# Altium footprint library FootprintsLib.PcbLib: 22 footprints (part 1 of 2)
Each footprint in its own frame and in the unit in brackets; x right, y up, seen from the top. Pads: shape width x height; smd on the part's side, far side on the other; paste and mask are expansions set on the pad; w line width, h text height; cw(c..) or ccw(c..) is an arc to the next point about the centre after c.
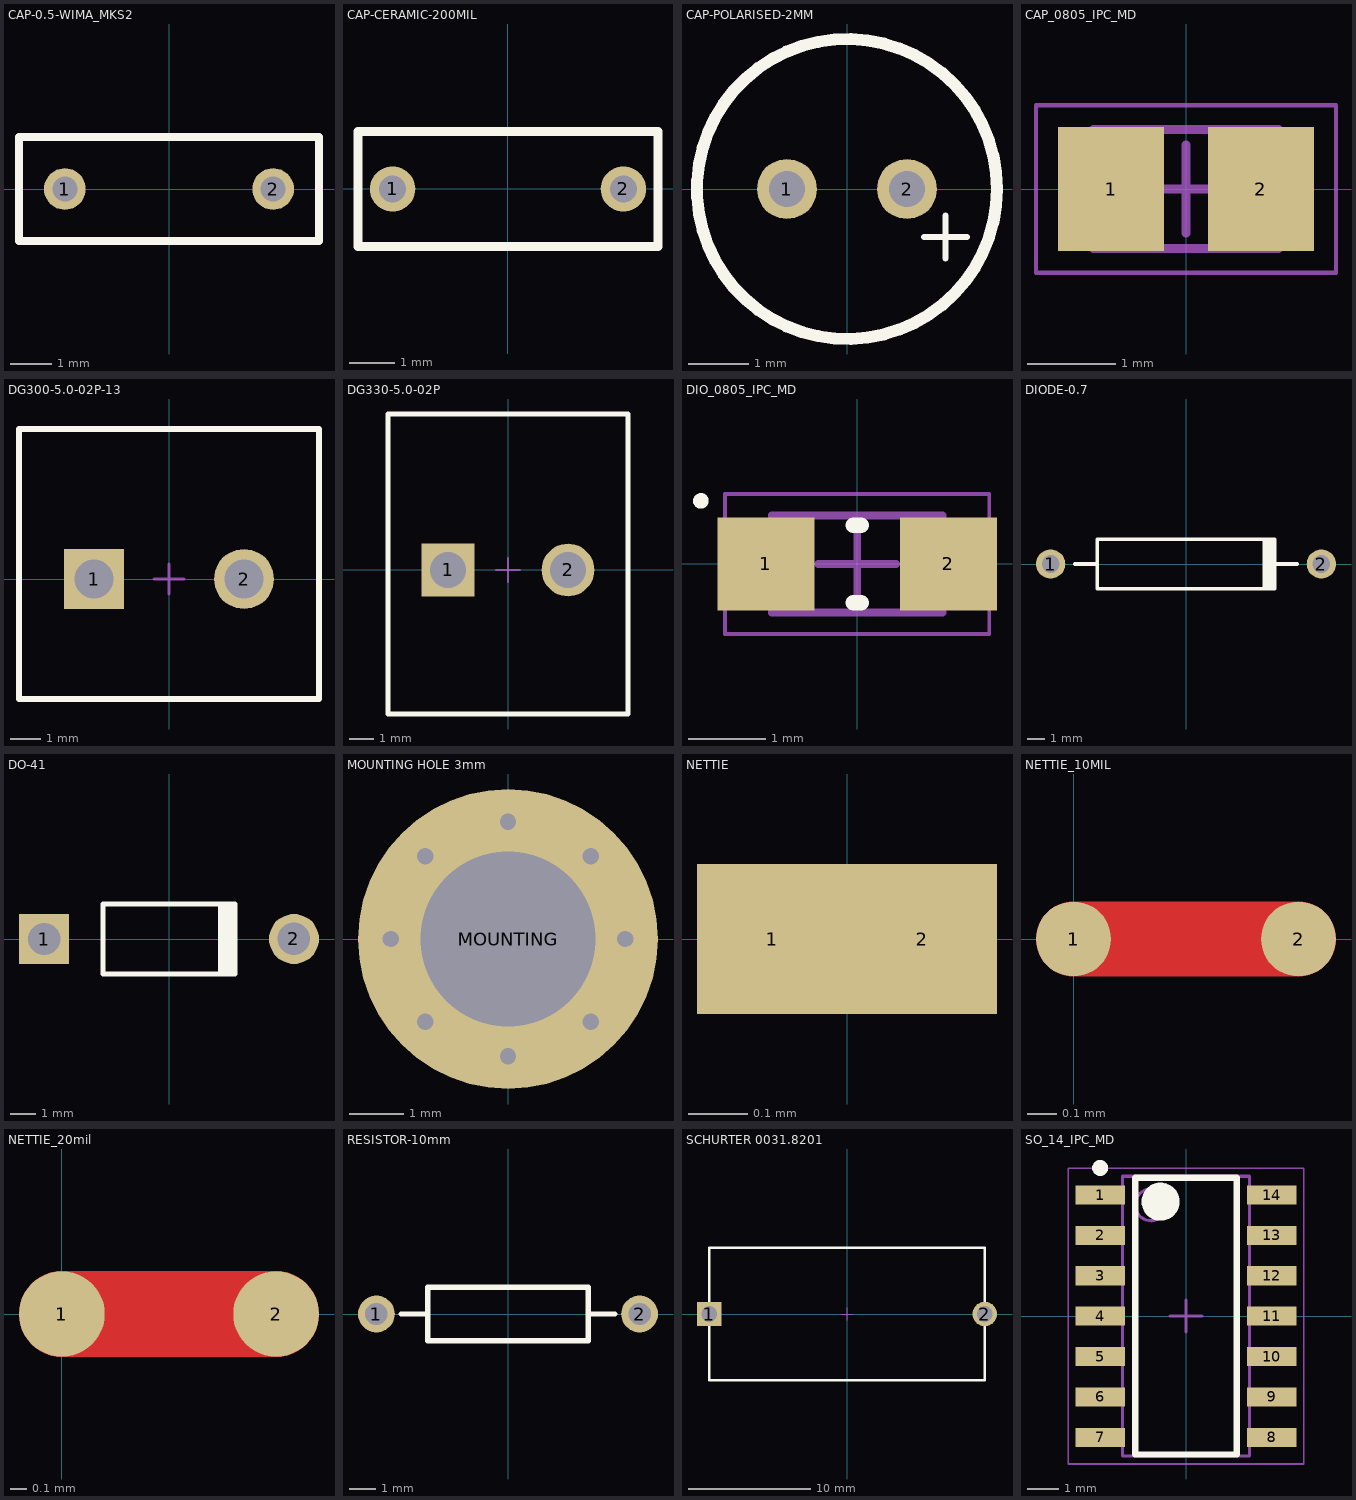
[diagram p0: the footprints below, top view; thin cyan lines are the x and y axes]

## CAP-0.5-WIMA_MKS2 [mm] "Metallized Polyester (PET)   Capacitors in PCM 5 mm"
pads (2):
  round 1 hole 0.6: 1(-2.5,0) 2(2.5,0)
Top Overlay:
  lines w0.2: -3.6,-1.25 3.6,-1.25 3.6,1.25 -3.6,1.25 -3.6,-1.25
3D body: height 1, standoff -0.5, extent -2.748,-0.249 -2.25,0.25
3D body: height 1, standoff -0.5, extent 2.251,-0.25 2.749,0.25
3D body: height 6.5, standoff 1, extent -3.6,-1.25 3.6,1.25

## CAP-CERAMIC-200MIL [mm] "UPW, Aluminium Electrolytic Capacitor"
height 7.6
pads (2):
  round 1 hole 0.6: 1(-2.54,0) 2(2.54,0)
Top Overlay:
  lines w0.2: -3.302,-1.27 3.302,-1.27 3.302,1.27 -3.302,1.27 -3.302,-1.27
3D body "Ceramic Cap, 5mm lead spacing, 4mm width, and 5.5mm tall, v4.step": height 6.7, standoff -0.6, extent -2.825,-1.27 2.825,1.184

## CAP-POLARISED-2MM [mm] "UPW, Aluminium Electrolytic Capacitor"
height 11
pads (2):
  round 1 hole 0.6: 1(-1,0) 2(1,0)
Top Overlay:
  circle w0.2: c0,0 r2.5
  lines w0.1: 1.284,-0.8 2,-0.8 ; 1.642,-1.158 1.642,-0.442
3D body "47uF_16V.STEP": height 13, standoff -8.9, extent -2.84,-2.75 2.84,2.75

## CAP_0805_IPC_MD [mm] "Chip Capacitor, 2-Leads, Body 2.00x1.25mm, IPC Medium Density"
height 1.35
pads (2):
  rect 1.2x1.4 smd: 1(-0.85,0) 2(0.85,0)
Mechanical 13:
  lines w0.1: -1.05,-0.675 1.05,-0.675 1.05,0.675 -1.05,0.675 -1.05,-0.675
Mechanical 15:
  lines w0.05: -1.7,-0.95 -1.7,0.95 1.7,0.95 1.7,-0.95 -1.7,-0.95
  lines w0.1: -0.5,0 0.5,0 ; 0,-0.5 0,0.5
3D body "CAP_0805_IPC_MD.step": height 1.35, standoff 0, extent -1.05,-0.675 1.05,0.675

## DG300-5.0-02P-13 [mm]
height 12.6
pads (2):
  rect 2x2 hole 1.3: 1(-2.5,0)
  round 2 hole 1.3: 2(2.5,0)
Top Overlay:
  lines w0.2: -5,-4 5,-4 5,5 -5,5 -5,-4
Mechanical 15:
  lines w0.05: -5,-4 -5,5 5,5 5,-4 -5,-4
  lines w0.1: -0.5,0 0.5,0 ; 0,-0.5 0,0.5
3D body: height 1.64, standoff -2.88, extent 0,0 0,0
3D body: height 1.64, standoff -2.88, extent 0,0 0,0
3D body "DG306-5.0-02P-12-00AH.x_t": height 10, standoff -3.8, extent -5.5,-3.2 5.1,4.4

## DG330-5.0-02P [mm]
height 12.6
pads (2):
  rect 2.2x2.2 hole 1.5: 1(-2.5,0)
  round 2.2 hole 1.5: 2(2.5,0)
Top Overlay:
  lines w0.2: -5,-6 5,-6 5,6.5 -5,6.5 -5,-6
Mechanical 15:
  lines w0.05: -5,-6 -5,6.5 5,6.5 5,-6 -5,-6
  lines w0.1: -0.5,0 0.5,0 ; 0,-0.5 0,0.5
3D body: height 1.64, standoff -2.88, extent 0,0 0,0
3D body: height 1.64, standoff -2.88, extent 0,0 0,0
3D body "DG330-5.0.STEP": height 12.5, standoff -5, extent -5,-6.2 5,6.3

## DIO_0805_IPC_MD [mm] "Chip Diode, 2-Leads, Body 2,00x1,25mm, IPC Medium Density"
height 1.1
pads (2):
  rect 1.25x1.2 smd: 1(-1.175,0) 2(1.175,0)
Top Overlay:
  circle w0.1: c-2.012,0.812 r0.05
  lines w0.2: -0.05,-0.5 0.05,-0.5 ; -0.05,0.5 0.05,0.5
Mechanical 13:
  lines w0.1: -1.1,-0.625 -1.1,0.625 1.1,0.625 1.1,-0.625 -1.1,-0.625
Mechanical 15:
  lines w0.05: -1.7,-0.9 -1.7,0.9 1.7,0.9 1.7,-0.9 -1.7,-0.9
  lines w0.1: -0.5,0 0.5,0 ; 0,-0.5 0,0.5
3D body "DIO_0805.step": height 1.1, standoff 0, extent -1.1,-0.625 1.1,0.625

## DIODE-0.7 [mm] "Diode, Thru-Hole; 2 Leads; 0.7 in Pin Spacing"
height 5.08
pads (2):
  round 1.65 hole 1: 1(-7.62,0) 2(7.62,0)
Top Overlay:
  rectangle: 4.3,-1.4 5.1,1.4
  lines w0.2: -6.25,0 -5,0 ; 5,-1.4 -5,-1.4 -5,1.4 5,1.4 ; 5,0 6.25,0
3D body "D_DO-15_P15.24mm_Horizontal_v2.step": height 6.2, standoff -0.59, extent -8.067,-1.938 8.066,2.023

## DO-41 [mm] "Diode, Axial; Body 5.2 x 2.7 mm (LxDia. max), Lead Dia. 0.86 mm (max)"
height 2.8
pads (2):
  rect 2x2 hole 1.3: 1(-5,0)
  round 2 hole 1.3: 2(5,0)
Top Overlay:
  rectangle: 1.95,-1.4 2.75,1.4
  lines w0.2: 2.65,-1.4 -2.65,-1.4 -2.65,1.4 2.65,1.4
3D body "Diode 1N4001.step": height 4.75, standoff -0.75, extent -5.376,-1.25 5.324,1.25

## MOUNTING HOLE 3mm [mm]
pads (1):
  round 5.5 hole 3.2 paste+0 mask+0: MOUNTING(0,0)
via 0,2.15 diameter 0.711 hole 0.3
via -1.52,-1.52 diameter 0.711 hole 0.3
via 0,-2.15 diameter 0.711 hole 0.3
via 1.52,-1.52 diameter 0.711 hole 0.3
via 2.15,0 diameter 0.711 hole 0.3
via 1.52,1.52 diameter 0.711 hole 0.3
via -1.52,1.52 diameter 0.711 hole 0.3
via -2.15,0 diameter 0.711 hole 0.3

## NETTIE [mil]
pads (2):
  rect 10x10 smd paste+0 mask+0: 1(-5,0) 2(5,0)

## NETTIE_10MIL [mil]
pads (2):
  round 10 smd paste+0 mask+0: 1(0,0) 2(30,0)
Top Layer:
  lines w10: 0,0 30,0

## NETTIE_20mil [mil]
pads (2):
  round 20 smd paste+0 mask+0: 1(0,0) 2(50,0)
Top Layer:
  lines w20: 0,0 50,0

## RESISTOR-10mm [mm] "Axial Device, Thru-Hole; 2 Leads; 0.4 in Pin Spacing"
height 2.032
pads (2):
  round 1.4 hole 0.85: 1(-5,0) 2(5,0)
Top Overlay:
  lines w0.2: -4.064,0 -3.048,0 ; 3.048,0 4.064,0 ; -3.048,-1.016 3.048,-1.016 3.048,1.016 -3.048,1.016 -3.048,-1.016
3D body "Resistor Metal Film 250mW.step": height 4.5, standoff -0.5, extent -5.27,-1 5.27,1

## SCHURTER 0031.8201 [mm] "Fuseholder Open Design, 5 x 20 mm, THT, var. Covers, IEC 60335-1"
height 12.7
pads (2):
  rect 2x2 hole 1.3: 1(-11.25,0)
  round 2 hole 1.3: 2(11.25,0)
Top Overlay:
  lines w0.2: -11.25,-5.4 -11.25,5.4 11.25,5.4 11.25,-5.4 -11.25,-5.4
Mechanical 15:
  lines w0.05: -11.25,-5.4 -11.25,5.4 11.25,5.4 11.25,-5.4 -11.25,-5.4
  lines w0.1: -0.5,0 0.5,0 ; 0,-0.5 0,0.5
3D body: height 13.1, standoff 12.5, extent 2.05,-4 2.05,4
3D body "31-8201.stp": height 11.5, standoff -4, extent -11.55,-4.8 11.55,4.8

## SO_14_IPC_MD [mm] "SOP, 14-Leads, Body 8,65x3,90mm, Pitch 1,27mm, IPC Medium Density"
height 1.75
pads (14):
  rect 1.55x0.6 smd: 1(-2.7,3.81) 2(-2.7,2.54) 3(-2.7,1.27) 4(-2.7,0) 5(-2.7,-1.27) 6(-2.7,-2.54) 7(-2.7,-3.81) 8(2.7,-3.81) 9(2.7,-2.54) 10(2.7,-1.27) 11(2.7,0) 12(2.7,1.27) 13(2.7,2.54) 14(2.7,3.81)
Top Overlay:
  circle w0.25: c-2.7,4.66 r0.125
  circle w0.6: c-0.8,3.6 r0.3
  lines w0.2: -1.6,-4.35 -1.6,4.35 1.6,4.35 1.6,-4.35 -1.6,-4.35
Mechanical 13:
  circle w0.1: c-1.1,3.5 r0.5
  lines w0.1: -2,-4.4 -2,4.4 2,4.4 2,-4.4 -2,-4.4
Mechanical 15:
  lines w0.05: -3.7,-4.65 -3.7,4.65 3.7,4.65 3.7,-4.65 -3.7,-4.65
  lines w0.1: -0.5,0 0.5,0 ; 0,-0.5 0,0.5
3D body "SOP14_MD_IPC.step": height 1.75, standoff 0, extent -3,-4.4 3,4.4